# Altium footprint library 22-03-5025.PcbLib: 1 footprints
Each footprint in its own frame and in the unit in brackets; x right, y up, seen from the top. Pads: shape width x height; smd on the part's side, far side on the other; paste and mask are expansions set on the pad; w line width, h text height; cw(c..) or ccw(c..) is an arc to the next point about the centre after c.
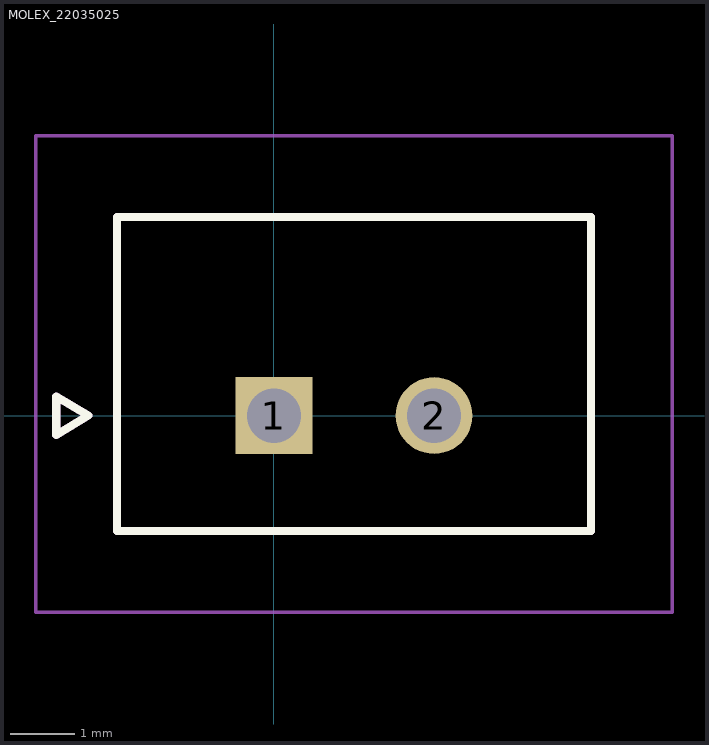
[diagram p0: the footprint, top view; thin cyan lines are the x and y axes]

## MOLEX_22035025 [mm]
pads (2):
  rect 1.2x1.2 hole 0.85 mask+0.076: 1(0,0)
  round 1.2 hole 0.85 mask+0.076: 2(2.5,0)
Top Overlay:
  lines w0.127: -3.4,-0.3 -2.9,0 -3.4,0.3 -3.4,-0.3 ; -2.45,-1.8 4.95,-1.8 4.95,3.1 -2.45,3.1 -2.45,-1.8
Mechanical 13:
  lines w0.127: -3.4,-0.3 -2.9,0 -3.4,0.3 -3.4,-0.3 ; -2.45,-1.8 -2.45,3.1 4.95,3.1 4.95,-1.8 -2.45,-1.8
  text "PTH D0.8-0.9" at -2.5,-5.67 h0.5
Mechanical 15:
  lines w0.05: -3.72,-3.07 -3.72,4.37 6.22,4.37 6.22,-3.07 -3.72,-3.07